# EAGLE library part TPS389006ADJRTER (library TPS389006ADJRTER)
Supervisory Circuits Multichannel overvoltage and undervoltage IC programmable voltage supervisor 16-WQFN -40 to 125 Source: Datasheet <https://www.ti.com/lit/ds/symlink/tps389006-q1.pdf?ts=1707388080315&ref_url=https%3A%2F%2Fwww.ti.com%2Fproduct%2FTPS389006-Q1>
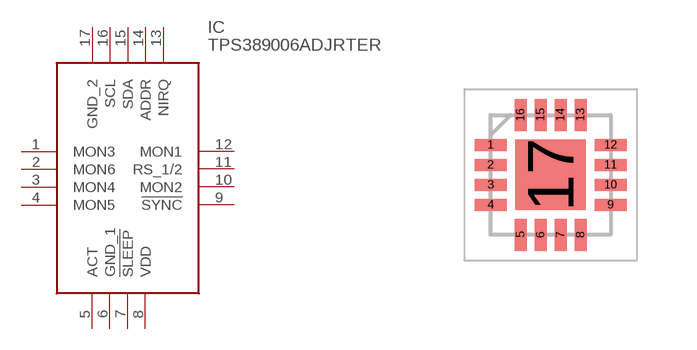
[diagram p0: symbol with the pads of QFN50P300X300X80-17N; footprint QFN50P300X300X80-17N]

Designator prefix IC

## TPS389006ADJRTER (Description: Supervisory Circuits Multichannel overvoltage and undervoltage IC programmable voltage supervisor 16-WQFN -40 to 125; Height: 0.8mm; Manufacturer_Name: Texas Instruments; Manufacturer_Part_Number: TPS389006ADJRTER; Mouser_Part_Number: 595-TPS389006ADJRTER; Mouser_Price-Stock: https://www.mouser.co.uk/ProductDetail/Texas-Instruments/TPS389006ADJRTER?qs=1Kr7Jg1SGW%2FXzoFRuc4x8A%3D%3D)  [QFN50P300X300X80-17N]
1  MON3
2  MON6
3  MON4
4  MON5
5  ACT
6  GND_1
7  !SLEEP
8  VDD
9  !SYNC
10  MON2
11  RS_1/2
12  MON1
13  NIRQ
14  ADDR
15  SDA
16  SCL
17  GND_2

## Footprint QFN50P300X300X80-17N (pad centres in mm)
RTE0016K
smd 0.8 x 0.3: 1 -1.5,0.75; 2 -1.5,0.25; 3 -1.5,-0.25; 4 -1.5,-0.75; 9 1.5,-0.75; 10 1.5,-0.25; 11 1.5,0.25; 12 1.5,0.75
smd 0.3 x 0.8: 5 -0.75,-1.5; 6 -0.25,-1.5; 7 0.25,-1.5; 8 0.75,-1.5; 13 0.75,1.5; 14 0.25,1.5; 15 -0.25,1.5; 16 -0.75,1.5
smd 1.76 x 1.76: 17 0,0